# Altium footprint library Connector.PcbLib: 170 footprints (part 3 of 11)
Each footprint in its own frame and in the unit in brackets; x right, y up, seen from the top. Pads: shape width x height; smd on the part's side, far side on the other; paste and mask are expansions set on the pad; w line width, h text height; cw(c..) or ccw(c..) is an arc to the next point about the centre after c.
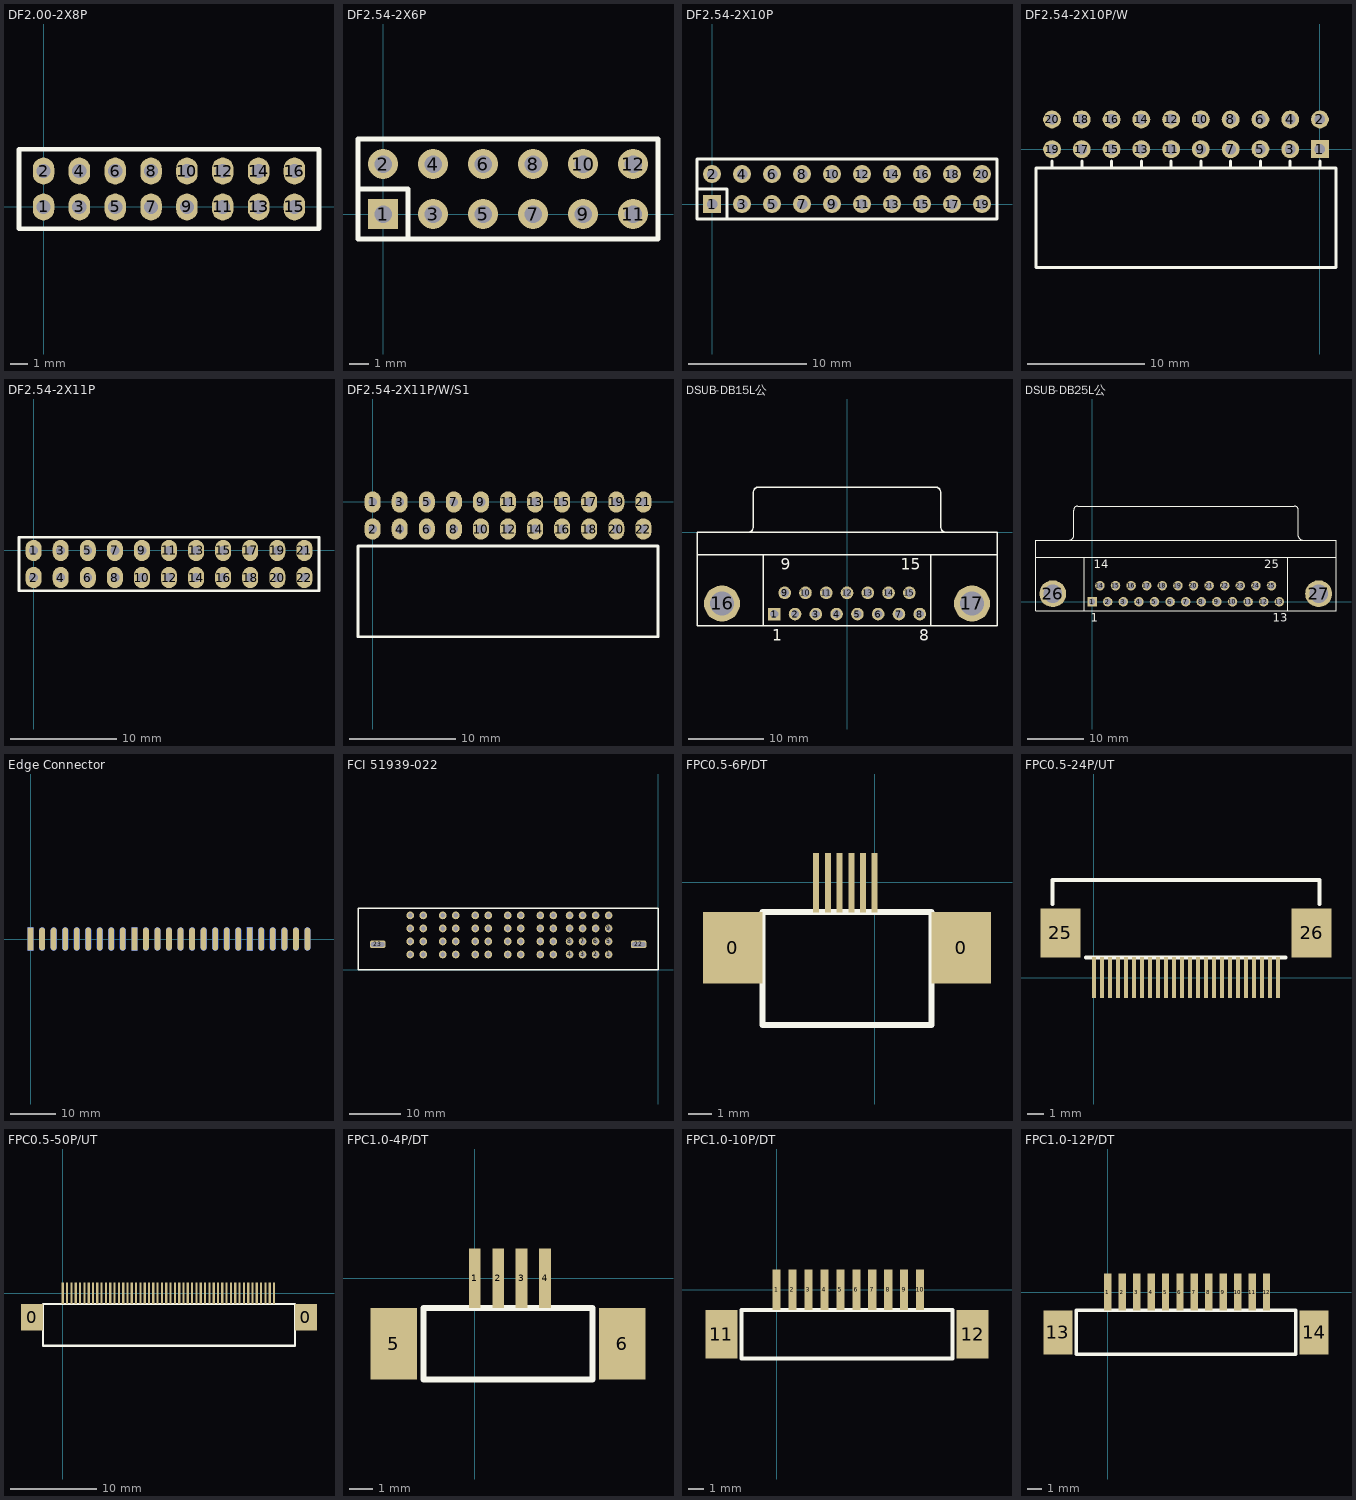
[diagram p2: the footprints below, top view; thin cyan lines are the x and y axes]

## DF2.00-2X8P [mm] "DUAL_ROW_FEMALE_D2.00-8P"
height 4
pads (16):
  oval 1.2x1.5 hole 0.8: 1(0,0)
  oval 1.2x1.5 hole 0.8 mask+0.102: 2(0,2) 3(2,0) 4(2,2) 5(4,0) 6(4,2) 7(6,0) 8(6,2) 9(8,0) 10(8,2) 11(10,0) 12(10,2) 13(12,0) 14(12,2) 15(14,0) 16(14,2)
Top Overlay:
  lines w0.254: -1.37,-1.23 -1.37,3.23 15.37,3.23 15.37,-1.23 -1.37,-1.23
3D body: height 0.5, standoff 0, extent -1.27,-1.27 15.37,3.23
3D body: height 4, standoff 0, extent 12.73,0.73 15.27,3.27
3D body: height 1, standoff -2, extent 13.594,1.594 14.39,2.392
3D body: height 4, standoff 0, extent 10.73,0.73 13.27,3.27
3D body: height 1, standoff -2, extent 11.594,1.594 12.39,2.392
3D body: height 4, standoff 0, extent 8.73,0.73 11.27,3.27
3D body: height 1, standoff -2, extent 9.594,1.594 10.39,2.392
3D body: height 4, standoff 0, extent 6.73,0.73 9.27,3.27
3D body: height 1, standoff -2, extent 7.594,1.594 8.39,2.392
3D body: height 4, standoff 0, extent 4.73,0.73 7.27,3.27
3D body: height 1, standoff -2, extent 5.594,1.594 6.39,2.392
3D body: height 4, standoff 0, extent 2.73,0.73 5.27,3.27
3D body: height 1, standoff -2, extent 3.594,1.594 4.39,2.392
3D body: height 4, standoff 0, extent 0.73,0.73 3.27,3.27
3D body: height 1, standoff -2, extent 1.594,1.594 2.39,2.392
3D body: height 4, standoff 0, extent -1.27,0.73 1.27,3.27
3D body: height 1, standoff -2, extent -0.406,1.594 0.39,2.392
3D body: height 4, standoff 0, extent 12.73,-1.27 15.27,1.27
3D body: height 1, standoff -2, extent 13.594,-0.406 14.39,0.392
3D body: height 4, standoff 0, extent 10.73,-1.27 13.27,1.27
3D body: height 1, standoff -2, extent 11.594,-0.406 12.39,0.392
3D body: height 4, standoff 0, extent 8.73,-1.27 11.27,1.27
3D body: height 1, standoff -2, extent 9.594,-0.406 10.39,0.392
3D body: height 4, standoff 0, extent 6.73,-1.27 9.27,1.27
3D body: height 1, standoff -2, extent 7.594,-0.406 8.39,0.392
3D body: height 4, standoff 0, extent 4.73,-1.27 7.27,1.27
3D body: height 1, standoff -2, extent 5.594,-0.406 6.39,0.392
3D body: height 4, standoff 0, extent 2.73,-1.27 5.27,1.27
3D body: height 1, standoff -2, extent 3.594,-0.406 4.39,0.392
3D body: height 4, standoff 0, extent 0.73,-1.27 3.27,1.27
3D body: height 1, standoff -2, extent 1.594,-0.406 2.39,0.392
3D body: height 4, standoff 0, extent -1.27,-1.27 1.27,1.27
3D body: height 1, standoff -2, extent -0.406,-0.406 0.39,0.392

## DF2.54-2X6P [mil] "DUAL_ROW_FEMALE_R2.54-2X10P"
pads (12):
  rect 60x60 hole 35: 1(0,0)
  round 60 hole 35: 2(0,100) 3(100,0) 4(100,100) 5(200,0) 6(200,100) 7(300,0) 8(300,100) 9(400,0) 10(400,100) 11(500,0) 12(500,100)
Top Overlay:
  lines w10: -50,50 50,50 50,-50 ; -50,-50 -50,150 550,150 550,-50 -50,-50
3D body: height 39.37, standoff -78.74, extent 484,-16 515.37,15.43
3D body: height 39.37, standoff -78.74, extent 384,-16 415.37,15.43
3D body: height 39.37, standoff -78.74, extent 284,-16 315.37,15.43
3D body: height 39.37, standoff -78.74, extent 184,-16 215.37,15.43
3D body: height 39.37, standoff -78.74, extent 84,-16 115.37,15.43
3D body: height 39.37, standoff -78.74, extent 484,84 515.37,115.43
3D body: height 39.37, standoff -78.74, extent 384,84 415.37,115.43
3D body: height 39.37, standoff -78.74, extent 284,84 315.37,115.43
3D body: height 39.37, standoff -78.74, extent 184,84 215.37,115.43
3D body: height 39.37, standoff -78.74, extent 84,84 115.37,115.43
3D body: height 39.37, standoff -78.74, extent -16,84 15.37,115.43
3D body: height 39.37, standoff -78.74, extent -16,-16 15.37,15.43
3D body: height 334.65, standoff 0, extent -50,-50 50,50
3D body: height 334.65, standoff 0, extent 50,-50 150,50
3D body: height 334.65, standoff 0, extent 150,-50 250,50
3D body: height 334.65, standoff 0, extent 250,-50 350,50
3D body: height 334.65, standoff 0, extent 350,-50 450,50
3D body: height 334.65, standoff 0, extent 450,-50 550,50
3D body: height 334.65, standoff 0, extent -50,50 50,150
3D body: height 334.65, standoff 0, extent 50,50 150,150
3D body: height 334.65, standoff 0, extent 150,50 250,150
3D body: height 334.65, standoff 0, extent 250,50 350,150
3D body: height 334.65, standoff 0, extent 350,50 450,150
3D body: height 334.65, standoff 0, extent 450,50 550,150
3D body: height 19.68, standoff 0, extent -50,-50 550,150

## DF2.54-2X10P [mil] "SIP2.54-2x10P直插排母"
pads (20):
  rect 60x60 hole 35: 1(0,0)
  round 60 hole 35: 2(0,100) 3(100,0) 4(100,100) 5(200,0) 6(200,100) 7(300,0) 8(300,100) 9(400,0) 10(400,100) 11(500,0) 12(500,100) 13(600,0) 14(600,100) 15(700,0) 16(700,100) 17(800,0) 18(800,100) 19(900,0) 20(900,100)
Top Overlay:
  lines w10: -50,50 50,50 50,-50 ; -50,-50 950,-50 950,150 -50,150 -50,-50
3D body: height 39.37, standoff -78.74, extent -16,-16 15.37,15.43
3D body: height 334.65, standoff 0, extent -50,-50 50,50
3D body: height 39.37, standoff -78.74, extent 84,-16 115.37,15.43
3D body: height 334.65, standoff 0, extent 50,-50 150,50
3D body: height 39.37, standoff -78.74, extent 184,-16 215.37,15.43
3D body: height 334.65, standoff 0, extent 150,-50 250,50
3D body: height 39.37, standoff -78.74, extent 284,-16 315.37,15.43
3D body: height 334.65, standoff 0, extent 250,-50 350,50
3D body: height 39.37, standoff -78.74, extent 384,-16 415.37,15.43
3D body: height 334.65, standoff 0, extent 350,-50 450,50
3D body: height 39.37, standoff -78.74, extent 484,-16 515.37,15.43
3D body: height 334.65, standoff 0, extent 450,-50 550,50
3D body: height 39.37, standoff -78.74, extent 584,-16 615.37,15.43
3D body: height 334.65, standoff 0, extent 550,-50 650,50
3D body: height 39.37, standoff -78.74, extent 684,-16 715.37,15.43
3D body: height 334.65, standoff 0, extent 650,-50 750,50
3D body: height 39.37, standoff -78.74, extent 784,-16 815.37,15.43
3D body: height 334.65, standoff 0, extent 750,-50 850,50
3D body: height 39.37, standoff -78.74, extent 884,-16 915.37,15.43
3D body: height 334.65, standoff 0, extent 850,-50 950,50
3D body: height 39.37, standoff -78.74, extent -16,84 15.37,115.43
3D body: height 334.65, standoff 0, extent -50,50 50,150
3D body: height 39.37, standoff -78.74, extent 84,84 115.37,115.43
3D body: height 334.65, standoff 0, extent 50,50 150,150
3D body: height 39.37, standoff -78.74, extent 184,84 215.37,115.43
3D body: height 334.65, standoff 0, extent 150,50 250,150
3D body: height 39.37, standoff -78.74, extent 284,84 315.37,115.43
3D body: height 334.65, standoff 0, extent 250,50 350,150
3D body: height 39.37, standoff -78.74, extent 384,84 415.37,115.43
3D body: height 334.65, standoff 0, extent 350,50 450,150
3D body: height 39.37, standoff -78.74, extent 484,84 515.37,115.43
3D body: height 334.65, standoff 0, extent 450,50 550,150
3D body: height 39.37, standoff -78.74, extent 584,84 615.37,115.43
3D body: height 334.65, standoff 0, extent 550,50 650,150
3D body: height 39.37, standoff -78.74, extent 684,84 715.37,115.43
3D body: height 334.65, standoff 0, extent 650,50 750,150
3D body: height 39.37, standoff -78.74, extent 784,84 815.37,115.43
3D body: height 334.65, standoff 0, extent 750,50 850,150
3D body: height 39.37, standoff -78.74, extent 884,84 915.37,115.43
3D body: height 334.65, standoff 0, extent 850,50 950,150
3D body: height 19.68, standoff 0, extent -50,-50 950,150

## DF2.54-2X10P/W [mil] "DUAL_ROW_FEMALE_R2.54-2X10P"
pads (20):
  rect 60x60 hole 35: 1(0,0)
  round 60 hole 35: 2(0,100) 3(-100,0) 4(-100,100) 5(-200,0) 6(-200,100) 7(-300,0) 8(-300,100) 9(-400,0) 10(-400,100) 11(-500,0) 12(-500,100) 13(-600,0) 14(-600,100) 15(-700,0) 16(-700,100) 17(-800,0) 18(-800,100) 19(-900,0) 20(-900,100)
Top Overlay:
  lines w10: -900,-62.99 -900,-40 ; -800,-62.99 -800,-40 ; -700,-62.99 -700,-40 ; -600,-62.99 -600,-40 ; -500,-62.99 -500,-40 ; -400,-62.99 -400,-40 ; -300,-62.99 -300,-40 ; -200,-62.99 -200,-40 ; -100,-62.99 -100,-40 ; 0,-62.99 0,-40 ; -953.94,-397.64 53.94,-397.64 53.94,-62.99 -953.94,-62.99 -953.94,-397.64
3D body: height 69.56, standoff 38.19, extent -15.72,-100 15.72,0
3D body: height 69.56, standoff 38.19, extent -115.72,-100 -84.28,0
3D body: height 69.56, standoff 38.19, extent -215.72,-100 -184.28,0
3D body: height 69.56, standoff 38.19, extent -315.72,-100 -284.28,0
3D body: height 69.56, standoff 38.19, extent -415.72,-100 -384.28,0
3D body: height 69.56, standoff 38.19, extent -515.72,-100 -484.28,0
3D body: height 69.56, standoff 38.19, extent -615.72,-100 -584.28,0
3D body: height 69.56, standoff 38.19, extent -715.72,-100 -684.28,0
3D body: height 69.56, standoff 38.19, extent -815.72,-100 -784.28,0
3D body: height 169.56, standoff 138.19, extent -15.72,-82.28 15.72,100
3D body: height 153.94, standoff -78.74, extent -15.65,84.28 15.72,115.72
3D body: height 53.94, standoff -78.74, extent -15.65,-15.72 15.72,15.72
3D body: height 169.56, standoff 138.19, extent -115.72,-82.28 -84.28,100
3D body: height 153.94, standoff -78.74, extent -115.65,84.28 -84.28,115.72
3D body: height 53.94, standoff -78.74, extent -115.65,-15.72 -84.28,15.72
3D body: height 169.56, standoff 138.19, extent -215.72,-82.28 -184.28,100
3D body: height 153.94, standoff -78.74, extent -215.65,84.28 -184.28,115.72
3D body: height 53.94, standoff -78.74, extent -215.65,-15.72 -184.28,15.72
3D body: height 169.56, standoff 138.19, extent -315.72,-82.28 -284.28,100
3D body: height 153.94, standoff -78.74, extent -315.65,84.28 -284.28,115.72
3D body: height 53.94, standoff -78.74, extent -315.65,-15.72 -284.28,15.72
3D body: height 169.56, standoff 138.19, extent -415.72,-82.28 -384.28,100
3D body: height 153.94, standoff -78.74, extent -415.65,84.28 -384.28,115.72
3D body: height 53.94, standoff -78.74, extent -415.65,-15.72 -384.28,15.72
3D body: height 169.56, standoff 138.19, extent -515.72,-82.28 -484.28,100
3D body: height 153.94, standoff -78.74, extent -515.65,84.28 -484.28,115.72
3D body: height 53.94, standoff -78.74, extent -515.65,-15.72 -484.28,15.72
3D body: height 169.56, standoff 138.19, extent -615.72,-82.28 -584.28,100
3D body: height 153.94, standoff -78.74, extent -615.65,84.28 -584.28,115.72
3D body: height 53.94, standoff -78.74, extent -615.65,-15.72 -584.28,15.72
3D body: height 169.56, standoff 138.19, extent -715.72,-82.28 -684.28,100
3D body: height 153.94, standoff -78.74, extent -715.65,84.28 -684.28,115.72
3D body: height 53.94, standoff -78.74, extent -715.65,-15.72 -684.28,15.72
3D body: height 169.56, standoff 138.19, extent -815.72,-82.28 -784.28,100
3D body: height 153.94, standoff -78.74, extent -815.65,84.28 -784.28,115.72
3D body: height 53.94, standoff -78.74, extent -815.65,-15.72 -784.28,15.72
3D body: height 53.94, standoff -78.74, extent -915.65,-15.72 -884.28,15.72
3D body: height 69.56, standoff 38.19, extent -915.72,-100 -884.28,0
3D body: height 153.94, standoff -78.74, extent -915.65,84.28 -884.28,115.72
3D body: height 169.56, standoff 138.19, extent -915.72,-82.28 -884.28,100
3D body: height 200, standoff 0, extent -70,-400 -50,-60
3D body: height 200, standoff 0, extent -150,-400 -130,-60
3D body: height 200, standoff 0, extent -170,-400 -150,-60
3D body: height 200, standoff 0, extent -250,-400 -230,-60
3D body: height 200, standoff 0, extent -270,-400 -250,-60
3D body: height 200, standoff 0, extent -350,-400 -330,-60
3D body: height 200, standoff 0, extent -370,-400 -350,-60
3D body: height 200, standoff 0, extent -450,-400 -430,-60
3D body: height 200, standoff 0, extent -470,-400 -450,-60
3D body: height 200, standoff 0, extent -550,-400 -530,-60
3D body: height 200, standoff 0, extent -570,-400 -550,-60
3D body: height 200, standoff 0, extent -650,-400 -630,-60
3D body: height 200, standoff 0, extent -670,-400 -650,-60
3D body: height 200, standoff 0, extent -750,-400 -730,-60
3D body: height 200, standoff 0, extent -770,-400 -750,-60
3D body: height 200, standoff 0, extent -850,-400 -830,-60
3D body: height 200, standoff 0, extent -870,-400 -850,-60
3D body: height 200, standoff 0, extent -950,-400 -930,-60
3D body: height 200, standoff 0, extent -950,-80 50,-60
3D body: height 200, standoff 0, extent -50,-400 -30,-60
3D body: height 200, standoff 0, extent 30,-400 50,-60
3D body: height 200, standoff 180, extent -950,-400 50,-60
3D body: height 20, standoff 0, extent -950,-400 50,-60
3D body: height 120, standoff 80, extent -950,-400 50,-60

## DF2.54-2X11P [mm] "DUAL_ROW_FEMALE_D2.54-11P"
pads (22):
  oval 1.5x2 hole 0.838: 1(0,0) 2(0,-2.54) 3(2.54,0) 4(2.54,-2.54) 5(5.08,0) 6(5.08,-2.54) 7(7.62,0) 8(7.62,-2.54) 9(10.16,0) 10(10.16,-2.54) 11(12.7,0) 12(12.7,-2.54) 13(15.24,0) 14(15.24,-2.54) 15(17.78,0) 16(17.78,-2.54) 17(20.32,0) 18(20.32,-2.54) 19(22.86,0) 20(22.86,-2.54) 21(25.4,0) 22(25.4,-2.54)
Top Overlay:
  lines w0.254: -1.37,-3.77 -1.37,1.23 26.77,1.23 26.77,-3.77 -1.37,-3.77
3D body: height 1, standoff -2, extent 24.994,-2.946 25.79,-2.148
3D body: height 8.5, standoff 0, extent 24.13,-3.81 26.67,-1.27
3D body: height 1, standoff -2, extent 24.994,-0.406 25.79,0.392
3D body: height 8.5, standoff 0, extent 24.13,-1.27 26.67,1.27
3D body: height 0.5, standoff 0, extent -1.27,-3.81 26.67,1.27
3D body: height 8.5, standoff 0, extent 21.59,-1.27 24.13,1.27
3D body: height 1, standoff -2, extent 22.454,-0.406 23.25,0.392
3D body: height 8.5, standoff 0, extent 19.05,-1.27 21.59,1.27
3D body: height 1, standoff -2, extent 19.914,-0.406 20.71,0.392
3D body: height 8.5, standoff 0, extent 16.51,-1.27 19.05,1.27
3D body: height 1, standoff -2, extent 17.374,-0.406 18.17,0.392
3D body: height 8.5, standoff 0, extent 13.97,-1.27 16.51,1.27
3D body: height 1, standoff -2, extent 14.834,-0.406 15.63,0.392
3D body: height 8.5, standoff 0, extent 11.43,-1.27 13.97,1.27
3D body: height 1, standoff -2, extent 12.294,-0.406 13.09,0.392
3D body: height 8.5, standoff 0, extent 8.89,-1.27 11.43,1.27
3D body: height 1, standoff -2, extent 9.754,-0.406 10.55,0.392
3D body: height 8.5, standoff 0, extent 6.35,-1.27 8.89,1.27
3D body: height 1, standoff -2, extent 7.214,-0.406 8.01,0.392
3D body: height 8.5, standoff 0, extent 3.81,-1.27 6.35,1.27
3D body: height 1, standoff -2, extent 4.674,-0.406 5.47,0.392
3D body: height 8.5, standoff 0, extent 1.27,-1.27 3.81,1.27
3D body: height 1, standoff -2, extent 2.134,-0.406 2.93,0.392
3D body: height 8.5, standoff 0, extent -1.27,-1.27 1.27,1.27
3D body: height 1, standoff -2, extent -0.406,-0.406 0.39,0.392
3D body: height 8.5, standoff 0, extent 21.59,-3.81 24.13,-1.27
3D body: height 1, standoff -2, extent 22.454,-2.946 23.25,-2.148
3D body: height 8.5, standoff 0, extent 19.05,-3.81 21.59,-1.27
3D body: height 1, standoff -2, extent 19.914,-2.946 20.71,-2.148
3D body: height 8.5, standoff 0, extent 16.51,-3.81 19.05,-1.27
3D body: height 1, standoff -2, extent 17.374,-2.946 18.17,-2.148
3D body: height 8.5, standoff 0, extent 13.97,-3.81 16.51,-1.27
3D body: height 1, standoff -2, extent 14.834,-2.946 15.63,-2.148
3D body: height 8.5, standoff 0, extent 11.43,-3.81 13.97,-1.27
3D body: height 1, standoff -2, extent 12.294,-2.946 13.09,-2.148
3D body: height 8.5, standoff 0, extent 8.89,-3.81 11.43,-1.27
3D body: height 1, standoff -2, extent 9.754,-2.946 10.55,-2.148
3D body: height 8.5, standoff 0, extent 6.35,-3.81 8.89,-1.27
3D body: height 1, standoff -2, extent 7.214,-2.946 8.01,-2.148
3D body: height 8.5, standoff 0, extent 3.81,-3.81 6.35,-1.27
3D body: height 1, standoff -2, extent 4.674,-2.946 5.47,-2.148
3D body: height 8.5, standoff 0, extent 1.27,-3.81 3.81,-1.27
3D body: height 1, standoff -2, extent 2.134,-2.946 2.93,-2.148
3D body: height 8.5, standoff 0, extent -1.27,-3.81 1.27,-1.27
3D body: height 1, standoff -2, extent -0.406,-2.946 0.39,-2.148

## DF2.54-2X11P/W/S1 [mm] "DUAL_ROW_FEMALE_R2.54-11P"
pads (22):
  oval 1.5x2 hole 0.813: 1(0,0) 2(0,-2.54) 3(2.54,0) 4(2.54,-2.54) 5(5.08,0) 6(5.08,-2.54) 7(7.62,0) 8(7.62,-2.54) 9(10.16,0) 10(10.16,-2.54) 11(12.7,0) 12(12.7,-2.54) 13(15.24,0) 14(15.24,-2.54) 15(17.78,0) 16(17.78,-2.54) 17(20.32,0) 18(20.32,-2.54) 19(22.86,0) 20(22.86,-2.54) 21(25.4,0) 22(25.4,-2.54)
Top Overlay:
  lines w0.254: -1.37,-12.64 -1.37,-4.14 26.77,-4.14 26.77,-12.64 -1.37,-12.64
3D body: height 1.77, standoff 0.97, extent 22.461,-5.08 23.259,-2.54
3D body: height 1.77, standoff 0.97, extent 19.921,-5.08 20.719,-2.54
3D body: height 1.77, standoff 0.97, extent 17.381,-5.08 18.179,-2.54
3D body: height 1.77, standoff 0.97, extent 14.841,-5.08 15.639,-2.54
3D body: height 1.77, standoff 0.97, extent 12.301,-5.08 13.099,-2.54
3D body: height 1.77, standoff 0.97, extent 9.761,-5.08 10.559,-2.54
3D body: height 1.77, standoff 0.97, extent 7.221,-5.08 8.019,-2.54
3D body: height 1.77, standoff 0.97, extent 4.681,-5.08 5.479,-2.54
3D body: height 1.77, standoff 0.97, extent 2.141,-5.08 2.939,-2.54
3D body: height 4.31, standoff 3.51, extent 22.461,-4.63 23.259,0
3D body: height 3.91, standoff -2, extent 22.462,-0.399 23.259,0.399
3D body: height 1.37, standoff -2, extent 22.462,-2.939 23.259,-2.141
3D body: height 4.31, standoff 3.51, extent 19.921,-4.63 20.719,0
3D body: height 3.91, standoff -2, extent 19.922,-0.399 20.719,0.399
3D body: height 1.37, standoff -2, extent 19.922,-2.939 20.719,-2.141
3D body: height 4.31, standoff 3.51, extent 17.381,-4.63 18.179,0
3D body: height 3.91, standoff -2, extent 17.382,-0.399 18.179,0.399
3D body: height 1.37, standoff -2, extent 17.382,-2.939 18.179,-2.141
3D body: height 4.31, standoff 3.51, extent 14.841,-4.63 15.639,0
3D body: height 3.91, standoff -2, extent 14.842,-0.399 15.639,0.399
3D body: height 1.37, standoff -2, extent 14.842,-2.939 15.639,-2.141
3D body: height 4.31, standoff 3.51, extent 12.301,-4.63 13.099,0
3D body: height 3.91, standoff -2, extent 12.302,-0.399 13.099,0.399
3D body: height 1.37, standoff -2, extent 12.302,-2.939 13.099,-2.141
3D body: height 4.31, standoff 3.51, extent 9.761,-4.63 10.559,0
3D body: height 3.91, standoff -2, extent 9.762,-0.399 10.559,0.399
3D body: height 1.37, standoff -2, extent 9.762,-2.939 10.559,-2.141
3D body: height 4.31, standoff 3.51, extent 7.221,-4.63 8.019,0
3D body: height 3.91, standoff -2, extent 7.222,-0.399 8.019,0.399
3D body: height 1.37, standoff -2, extent 7.222,-2.939 8.019,-2.141
3D body: height 4.31, standoff 3.51, extent 4.681,-4.63 5.479,0
3D body: height 3.91, standoff -2, extent 4.682,-0.399 5.479,0.399
3D body: height 1.37, standoff -2, extent 4.682,-2.939 5.479,-2.141
3D body: height 4.31, standoff 3.51, extent 2.141,-4.63 2.939,0
3D body: height 3.91, standoff -2, extent 2.142,-0.399 2.939,0.399
3D body: height 1.37, standoff -2, extent 2.142,-2.939 2.939,-2.141
3D body: height 1.37, standoff -2, extent -0.398,-2.939 0.399,-2.141
3D body: height 1.77, standoff 0.97, extent -0.399,-5.08 0.399,-2.54
3D body: height 3.91, standoff -2, extent -0.398,-0.399 0.399,0.399
3D body: height 4.31, standoff 3.51, extent -0.399,-4.63 0.399,0
3D body: height 5.08, standoff 0, extent 21.082,-12.7 21.59,-4.064
3D body: height 5.08, standoff 0, extent 19.05,-12.7 19.558,-4.064
3D body: height 5.08, standoff 0, extent 18.542,-12.7 19.05,-4.064
3D body: height 5.08, standoff 0, extent 16.51,-12.7 17.018,-4.064
3D body: height 5.08, standoff 0, extent 16.002,-12.7 16.51,-4.064
3D body: height 5.08, standoff 0, extent 13.97,-12.7 14.478,-4.064
3D body: height 5.08, standoff 0, extent 13.462,-12.7 13.97,-4.064
3D body: height 5.08, standoff 0, extent 11.43,-12.7 11.938,-4.064
3D body: height 5.08, standoff 0, extent 10.922,-12.7 11.43,-4.064
3D body: height 5.08, standoff 0, extent 8.89,-12.7 9.398,-4.064
3D body: height 5.08, standoff 0, extent 8.382,-12.7 8.89,-4.064
3D body: height 5.08, standoff 0, extent 6.35,-12.7 6.858,-4.064
3D body: height 5.08, standoff 0, extent 5.842,-12.7 6.35,-4.064
3D body: height 5.08, standoff 0, extent 3.81,-12.7 4.318,-4.064
3D body: height 5.08, standoff 0, extent 3.302,-12.7 3.81,-4.064
3D body: height 5.08, standoff 0, extent 1.27,-12.7 1.778,-4.064
3D body: height 5.08, standoff 0, extent 0.762,-12.7 1.27,-4.064
3D body: height 5.08, standoff 0, extent -1.27,-12.7 -0.762,-4.064
3D body: height 5.08, standoff 0, extent -1.27,-4.572 26.67,-4.064
3D body: height 5.08, standoff 0, extent 21.59,-12.7 22.098,-4.064
3D body: height 5.08, standoff 0, extent 23.622,-12.7 24.13,-4.064
3D body: height 5.08, standoff 4.57, extent -1.27,-12.7 26.67,-4.064
3D body: height 0.51, standoff 0, extent -1.27,-12.7 26.67,-4.064
3D body: height 3.05, standoff 2.03, extent -1.27,-12.7 26.67,-4.064
3D body: height 5.08, standoff 0, extent 26.162,-12.7 26.67,-4.064
3D body: height 5.08, standoff 0, extent 24.13,-12.7 24.638,-4.064
3D body: height 1.37, standoff -2, extent 25.002,-2.939 25.799,-2.141
3D body: height 3.91, standoff -2, extent 25.002,-0.399 25.799,0.399
3D body: height 4.31, standoff 3.51, extent 25.001,-4.63 25.799,0
3D body: height 1.77, standoff 0.97, extent 25.001,-5.08 25.799,-2.54

## DSUB-DB15L公 [mm] "Connector; D Subminiature; 15 Position; Right Angle; Pitch 1.385 mm"
height 12.75
pads (17):
  rect 1.69x1.69 hole 1.09: 1(-9.695,-10.92)
  round 1.69 hole 1.09: 2(-6.925,-10.92) 3(-4.155,-10.92) 4(-1.385,-10.92) 5(1.385,-10.92) 6(4.155,-10.92) 7(6.925,-10.92) 8(9.695,-10.92) 9(-8.31,-8.08) 10(-5.54,-8.08) 11(-2.77,-8.08) 12(0,-8.08) 13(2.77,-8.08) 14(5.54,-8.08) 15(8.31,-8.08)
  round 4.8 hole 3.18: 16(-16.66,-9.5) 17(16.66,-9.5)
Top Overlay:
  lines w0.2: -20,-3 20,-3 ; -13.195,0.005 ccw(c-13.195,0.7) -12.5,0.7 -12.5,5.3 ; -12.495,5.305 cw(c-11.8,5.305) -11.8,6 11.8,6 cw(c11.8,5.305) 12.495,5.305 ; -11.14,-12.5 -11.14,-3 ; 11.14,-12.5 11.14,-3 ; 12.5,5.3 12.5,0.7 ccw(c13.195,0.7) 13.195,0.005 ; -20,-12.5 20,-12.5 20,0 -20,0 -20,-12.5
  text "9" at -8.81,-4.975 h1.5
  text "15" at 7.185,-4.975 h1.5
  text "8" at 9.652,-14.475 h1.5
  text "1" at -9.945,-14.475 h1.5

## DSUB-DB25L公 [mm] "Connector; D Subminiature; 25 Position; Right Angle; Pitch 1.385 mm"
height 12.93
pads (27):
  rect 1.69x1.69 hole 1.09: 1(0,0)
  round 1.69 hole 1.09: 2(2.761,0) 3(5.522,0) 4(8.283,0) 5(11.044,0) 6(13.805,0) 7(16.566,0) 8(19.327,0) 9(22.088,0) 10(24.849,0) 11(27.61,0) 12(30.371,0) 13(33.132,0) 14(1.381,2.84) 15(4.142,2.84) 16(6.903,2.84) 17(9.664,2.84) 18(12.424,2.84) 19(15.185,2.84) 20(17.946,2.84) 21(20.707,2.84) 22(23.469,2.84) 23(26.23,2.84) 24(28.991,2.84) 25(31.752,2.84)
  round 4.76 hole 3.26: 26(-6.96,1.42) 27(40.092,1.42)
Top Overlay:
  lines w0.2: -9.93,7.92 43.17,7.92 ; -3.975,10.925 ccw(c-3.975,11.62) -3.28,11.62 -3.28,16.22 ; -3.275,16.225 cw(c-2.58,16.225) -2.58,16.92 35.82,16.92 cw(c35.82,16.225) 36.515,16.225 ; -1.38,-1.58 -1.38,7.92 ; 34.62,-1.58 34.62,7.92 ; 36.52,16.22 36.52,11.62 ccw(c37.215,11.62) 37.215,10.925 ; -9.93,-1.58 43.17,-1.58 43.17,10.92 -9.93,10.92 -9.93,-1.58
  text "1" at -0.25,-3.555 h1.5
  text "13" at 32.007,-3.555 h1.5
  text "14" at 0.256,5.945 h1.5
  text "25" at 30.502,5.945 h1.5

## Edge Connector [mm]
pads (50):
  rect 1.27x5.08 smd: A1(0,0) A10(22.86,0) A20(48.26,0)
  oval 1.27x5.08 smd: A2(2.54,0) A3(5.08,0) A4(7.62,0) A5(10.16,0) A6(12.7,0) A7(15.24,0) A8(17.78,0) A9(20.32,0) A11(25.4,0) A12(27.94,0) A13(30.48,0) A14(33.02,0) A15(35.56,0) A16(38.1,0) A17(40.64,0) A18(43.18,0) A19(45.72,0) A21(50.8,0) A22(53.34,0) A23(55.88,0) A24(58.42,0) A25(60.96,0)
  rect 1.27x5.08 smd far side: B1(0,0) B10(22.86,0) B20(48.26,0)
  oval 1.27x5.08 smd far side: B2(2.54,0) B3(5.08,0) B4(7.62,0) B5(10.16,0) B6(12.7,0) B7(15.24,0) B8(17.78,0) B9(20.32,0) B11(25.4,0) B12(27.94,0) B13(30.48,0) B14(33.02,0) B15(35.56,0) B16(38.1,0) B17(40.64,0) B18(43.18,0) B19(45.72,0) B21(50.8,0) B22(53.34,0) B23(55.88,0) B24(58.42,0) B25(60.96,0)

## FCI 51939-022 [mm]
pads (58):
  round 1.5 hole 0.9: 1(-9.64,2.95) 2(-12.18,2.95) 3(-14.72,2.95) 4(-17.26,2.95) 5(-9.64,5.49) 6(-12.18,5.49) 7(-14.72,5.49) 8(-17.26,5.49) 9(-9.64,8.03) 10(-12.18,8.03) 11(-14.72,8.03) 12(-17.26,8.03) 13(-9.64,10.57) 14(-12.18,10.57) 15(-14.72,10.57) 16(-17.26,10.57) 17(-22.97,2.95) 17(-22.97,5.49) 17(-22.97,8.03) 17(-22.97,10.57) 17(-20.43,2.95) 17(-20.43,5.49) 17(-20.43,8.03) 17(-20.43,10.57) 18(-29.32,2.95) 18(-29.32,5.49) 18(-29.32,8.03) 18(-29.32,10.57) 18(-26.78,2.95) 18(-26.78,5.49) 18(-26.78,8.03) 18(-26.78,10.57) 19(-35.67,2.95) 19(-35.67,5.49) 19(-35.67,8.03) 19(-35.67,10.57) 19(-33.13,2.95) 19(-33.13,5.49) 19(-33.13,8.03) 19(-33.13,10.57) 20(-42.02,2.95) 20(-42.02,5.49) 20(-42.02,8.03) 20(-42.02,10.57) 20(-39.48,2.95) 20(-39.48,5.49) 20(-39.48,8.03) 20(-39.48,10.57) 21(-48.37,2.95) 21(-48.37,5.49) 21(-48.37,8.03) 21(-48.37,10.57) 21(-45.83,2.95) 21(-45.83,5.49) 21(-45.83,8.03) 21(-45.83,10.57)
  rrect50% 3x1.5 hole 0.9 slot 2.65 at 0 deg: 22(-3.77,4.925) 23(-54.71,4.925)
Top Overlay:
  lines w0.254: -58.56,0 0,0 0,11.94 -58.56,11.94 -58.56,0

## FPC0.5-6P/DT [mil]
pads (8):
  rect 100x120 smd: 0(-238.67,-109.79) 0(145.19,-109.79)
  rect 10x100 smd: 1(-0.19,-0.21) 2(-19.87,-0.21) 3(-39.56,-0.21) 4(-59.24,-0.21) 5(-78.93,-0.21) 6(-98.61,-0.21)
Top Overlay:
  lines w10: -188.67,-239.79 -188.67,-49.79 95.19,-49.79 95.19,-239.79 -188.67,-239.79

## FPC0.5-24P/UT [mm]
pads (26):
  rect 0.25x2.54 smd: 1(0,0) 2(0.5,0) 3(1,0) 4(1.5,0) 5(2,0) 6(2.5,0) 7(3,0) 8(3.5,0) 9(4,0) 10(4.5,0) 11(5,0) 12(5.5,0) 13(6,0) 14(6.5,0) 15(7,0) 16(7.5,0) 17(8,0) 18(8.5,0) 19(9,0) 20(9.5,0) 21(10,0) 22(10.5,0) 23(11,0) 24(11.5,0)
  rect 2.5x3.048 smd: 25(-2.1,2.783) 26(13.6,2.783)
Top Overlay:
  lines w0.254: -2.6,4.6 -2.6,6.085 14.1,6.085 14.1,4.6 ; -0.5,1.259 11.959,1.259

## FPC0.5-50P/UT [mil]
pads (52):
  rect 100x120 smd: 0(-139.81,-109.79) 0(1110.19,-109.79)
  rect 10x100 smd: 1(964.81,-0.21) 2(945.13,-0.21) 3(925.44,-0.21) 4(905.76,-0.21) 5(886.07,-0.21) 6(866.39,-0.21) 7(846.7,-0.21) 8(827.02,-0.21) 9(807.33,-0.21) 10(787.65,-0.21) 11(767.96,-0.21) 12(748.28,-0.21) 13(728.59,-0.21) 14(708.91,-0.21) 15(689.22,-0.21) 16(669.54,-0.21) 17(649.85,-0.21) 18(630.17,-0.21) 19(610.48,-0.21) 20(590.8,-0.21) 21(571.11,-0.21) 22(551.43,-0.21) 23(531.74,-0.21) 24(512.06,-0.21) 25(492.37,-0.21) 26(472.69,-0.21) 27(453,-0.21) 28(433.31,-0.21) 29(413.63,-0.21) 30(393.94,-0.21) 31(374.26,-0.21) 32(354.57,-0.21) 33(334.89,-0.21) 34(315.2,-0.21) 35(295.52,-0.21) 36(275.83,-0.21) 37(256.15,-0.21) 38(236.46,-0.21) 39(216.78,-0.21) 40(197.09,-0.21) 41(177.41,-0.21) 42(157.72,-0.21) 43(138.04,-0.21) 44(118.35,-0.21) 45(98.67,-0.21) 46(78.98,-0.21) 47(59.3,-0.21) 48(39.61,-0.21) 49(19.93,-0.21) 50(0,0)
Top Overlay:
  lines w10: -89.81,-239.79 1060.19,-239.79 1060.19,-49.79 -89.81,-49.79 -89.81,-239.79

## FPC1.0-4P/DT [mil]
pads (6):
  rect 20x100 smd: 1(0,0) 2(39.37,0) 3(78.74,0) 4(118.11,0)
  rect 78.74x120 smd: 5(-136.1,-110) 6(247.66,-110)
Top Overlay:
  lines w10: -86.1,-170 197.68,-170 197.68,-50 -86.1,-50 -86.1,-170
3D body: height 39.37, standoff 0, extent -86.1,-170 195,-55

## FPC1.0-10P/DT [mil]
pads (12):
  rect 20x100 smd: 1(0,0) 2(39.37,0) 3(78.74,0) 4(118.11,0) 5(157.48,0) 6(196.85,0) 7(236.22,0) 8(275.59,0) 9(314.96,0) 10(354.33,0)
  rect 78.74x120 smd: 11(-136.1,-110) 12(483.88,-110)
Top Overlay:
  lines w10: -86.1,-170 433.9,-170 433.9,-50 -86.1,-50 -86.1,-170
3D body: height 39.37, standoff 0, extent -86.1,-170 433.9,-55

## FPC1.0-12P/DT [mil]
pads (14):
  rect 20x100 smd: 1(0,0) 2(39.37,0) 3(78.74,0) 4(118.11,0) 5(157.48,0) 6(196.85,0) 7(236.22,0) 8(275.59,0) 9(314.96,0) 10(354.33,0) 11(393.7,0) 12(433.07,0)
  rect 78.74x120 smd: 13(-136.1,-110) 14(562.62,-110)
Top Overlay:
  lines w10: -86.1,-170 -86.1,-50 512.64,-50 512.64,-170 -86.1,-170
3D body: height 39.37, standoff 0, extent -86.1,-170 515,-55